# EAGLE library part 74HCT240 (library ds_ic_logic)
CDx4HC240, CDx4HCT240, CD74HC241, CDx4HCT241, CDx4HC244, CDx4HCT244 High-Speed CMOS Logic Octal Buffer/Line Drivers, Three-State
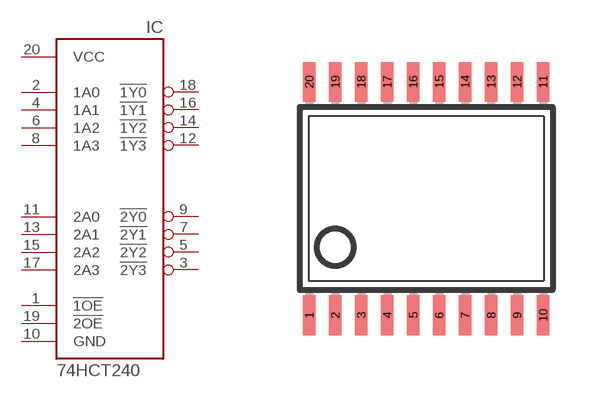
[diagram p5: symbol with the pads of TSSOP20; footprint TSSOP20]

Designator prefix IC

## 74HCT240 (DATASHEET: https://www.ti.com/lit/ds/symlink/sn74ahct240.pdf; DESCRIPTION: 4 7.8mA 2V~6V 7.8mA 2 TSSOP-20 Buffers, Drivers, Receivers, Transceivers ROHS; LCSC_PART: C507217; VALUE: SN74AHCT240PWR)  [TSSOP20]
1  !1OE  in
2  1A0  in
3  !2Y3  out
4  1A1  in
5  !2Y2  out
6  1A2  in
7  !2Y1  out
8  1A3  in
9  !2Y0  out
10  GND  pwr
11  2A0  in
12  !1Y3  out
13  2A1  in
14  !1Y2  out
15  2A2  in
16  !1Y1  out
17  2A3  in
18  !1Y0  out
19  !2OE  in
20  VCC  pwr

## Footprint TSSOP20 (pad centres in mm)
Thin Shrink Small Outline Plastic 20 MAX3223-MAX3243.pdf
smd 0.305 x 0.991: 1 -2.925,-2.918; 2 -2.275,-2.918; 3 -1.625,-2.918; 4 -0.975,-2.918; 5 -0.325,-2.918; 6 0.325,-2.918; 7 0.975,-2.918; 8 1.625,-2.918; 9 2.275,-2.918; 10 2.925,-2.918; 11 2.925,2.918; 12 2.275,2.918; 13 1.625,2.918; 14 0.975,2.918; 15 0.325,2.918; 16 -0.325,2.918; 17 -0.975,2.918; 18 -1.625,2.918; 19 -2.275,2.918; 20 -2.925,2.918